# Altium schematic symbol library Connectors-SH1.0.SchLib: 4 symbols
Pins are listed as number, name and electrical type; pins without a type are passive.

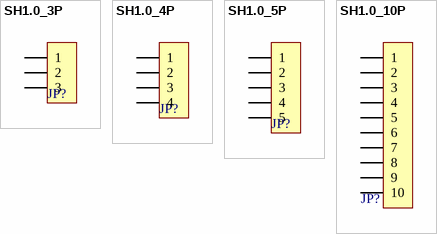
[diagram p0: symbols SH1.0_3P to SH1.0_10P]

## SH1.0_3P
designator JP?
pins: 1, 2, 3

## SH1.0_4P
designator JP?
pins: 1, 2, 3, 4

## SH1.0_5P
designator JP?
pins: 1, 2, 3, 4, 5

## SH1.0_10P
designator JP?
pins: 1, 2, 3, 4, 5, 6, 7, 8, 9, 10